# EAGLE library part FCI-10033526-N3212LF (library SchlegelAr_Master)
FCI-10033526-N3212LF last modified: Armin Schlegel, 20.03.2014 http://de.mouser.com/ProductDetail/FCI/10033526-N3212LF/?qs=%2Fha2pyFadujxDEaTCG%2F3IgsbFChSuv66JrkjaCBKgukjCIH%2FH4qAI7ajoEkcwwLO http://portal.fciconnect.com/Comergent//fci/drawing/10033526.pdf
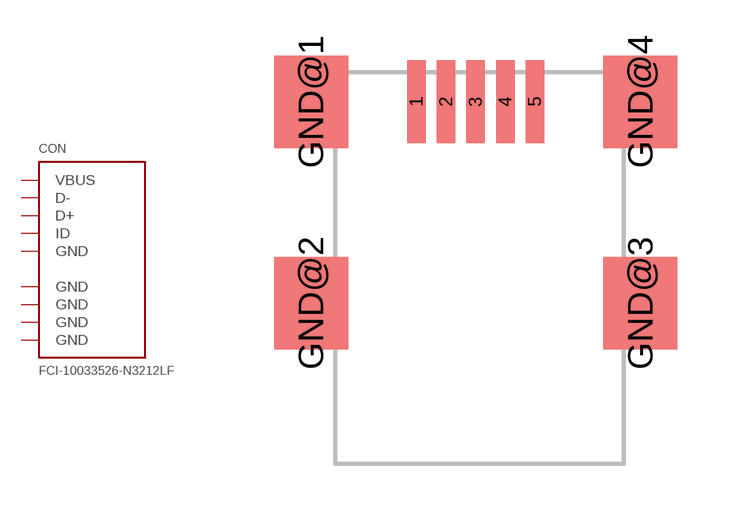
[diagram p7: symbol with the pads of FCI-10033526-N3212LF; footprint FCI-10033526-N3212LF]

Designator prefix CON

## FCI-10033526-N3212LF  [FCI-10033526-N3212LF]
1  VBUS
2  D-
3  D+
4  ID
5  GND
GND@1  GND  pwr
GND@2  GND  pwr
GND@3  GND  pwr
GND@4  GND  pwr

## Footprint FCI-10033526-N3212LF (pad centres in mm)
smd 0.5 x 2.25: 1 -1.6,0.8; 2 -0.8,0.8; 3 0,0.8; 4 0.8,0.8; 5 1.6,0.8
smd 2 x 2.5: GND@1 -4.45,0.8; GND@2 -4.45,-4.65; GND@3 4.45,-4.65; GND@4 4.45,0.8